# EAGLE library part TPS61175 (library My_TI)
TPS61175 3-A High-Voltage Boost Converter With Soft-Start and Programmable Switching Frequency • 2.9-V to 18-V Input Voltage Range. • 3-A, 40-V Internal Switch. • High-Efficiency Power Conversion: Up to 93%. • Frequency Set by External Resistor: 200 kHz to 2.2 MHz. Datasheet <http://www.ti.com/lit/ds/symlink/tps61175.pdf>
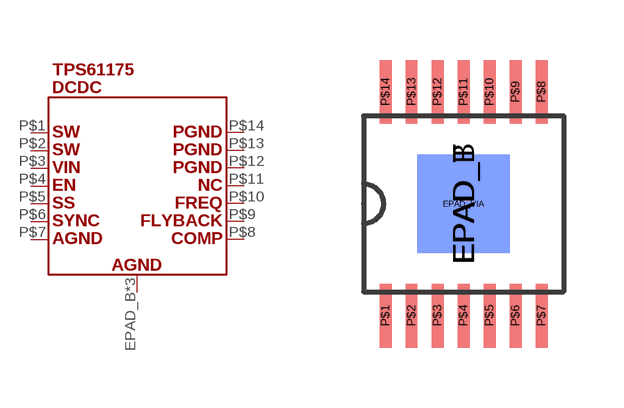
[diagram p36: symbol with the pads of HTSSOP-14; footprint HTSSOP-14]

Designator prefix DCDC

## TPS61175  [HTSSOP-14]
EPAD_B  P$15
EPAD_T  P$15
EPAD_VIA  P$15
P$1  P$1
P$2  P$2
P$3  P$3
P$4  P$4
P$5  P$5
P$6  P$6
P$7  P$7
P$8  P$8
P$9  P$9
P$10  P$10
P$11  P$11
P$12  P$12
P$13  P$13
P$14  P$14

## Footprint HTSSOP-14 (pad centres in mm)
smd 2.31 x 2.46 bottom: EPAD_B 0,0
smd 2.31 x 2.46: EPAD_T 0,0
drill 0.4: EPAD_VIA 0,0
smd 0.3 x 1.6: P$1 -1.95,-2.8; P$2 -1.3,-2.8; P$3 -0.65,-2.8; P$4 0,-2.8; P$5 0.65,-2.8; P$6 1.3,-2.8; P$7 1.95,-2.8; P$8 1.95,2.8; P$9 1.3,2.8; P$10 0.65,2.8; P$11 0,2.8; P$12 -0.65,2.8; P$13 -1.3,2.8; P$14 -1.95,2.8